# Altium footprint library IVV_Connectors.PcbLib: 11 footprints
Each footprint in its own frame and in the unit in brackets; x right, y up, seen from the top. Pads: shape width x height; smd on the part's side, far side on the other; paste and mask are expansions set on the pad; w line width, h text height; cw(c..) or ccw(c..) is an arc to the next point about the centre after c.
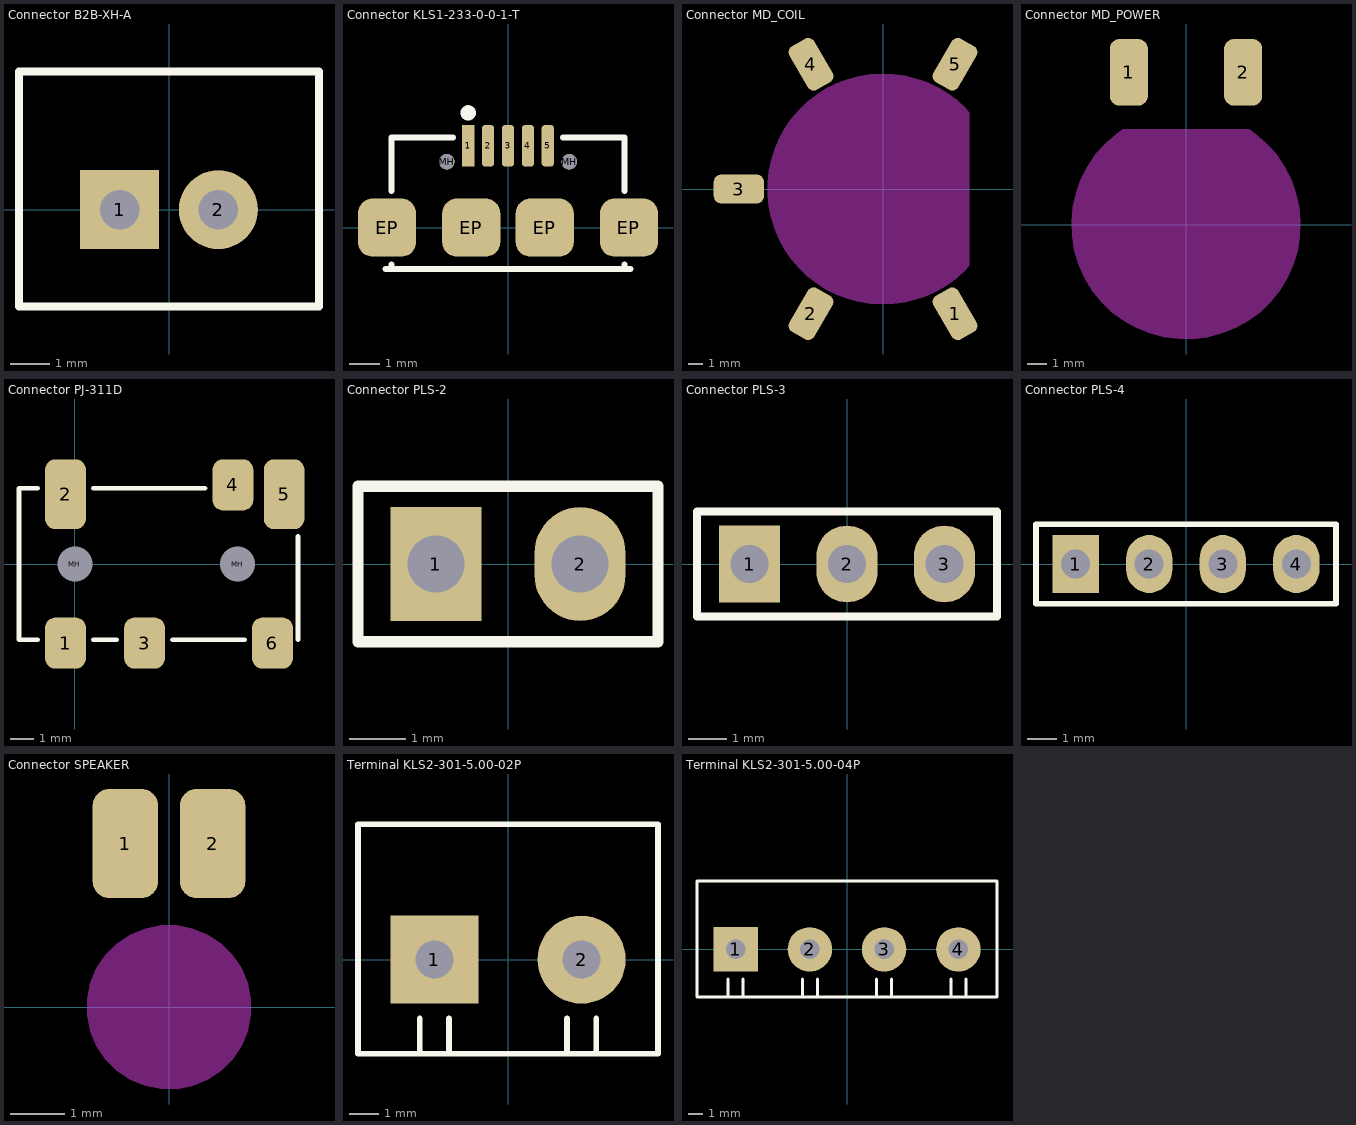
[diagram p0: the footprints below, top view; thin cyan lines are the x and y axes]

## Connector B2B-XH-A [mm]
pads (2):
  rect 2x2 hole 1 mask+0.075: 1(-1.25,0)
  round 2 hole 1 mask+0.075: 2(1.25,0)
Top Overlay:
  lines w0.2: -3.8,-2.45 -3.8,3.5 3.8,3.5 3.8,-2.45 -3.8,-2.45
3D body "JST - XH - Thru - 2Pin - 2.5mm (Genuine).stp": height 7.21, standoff -3, extent -3.587,-2.489 3.587,3.353

## Connector KLS1-233-0-0-1-T [mm]
pads (11):
  rect 0.4x1.35 smd mask+0.075: 1(-1.3,2.675)
  rrect50% 0.4x1.35 smd mask+0.075: 2(-0.65,2.675) 3(0,2.675) 4(0.65,2.675) 5(1.3,2.675)
  rrect50% 1.9x1.9 smd mask+0.075: EP(-3.95,0) EP(-1.2,0) EP(1.2,0) EP(3.95,0)
  round 0.5 hole 0.5 unplated mask+0.075: MH(-2,2.15) MH(2,2.15)
Top Overlay:
  circle w0.25: c-1.3,3.75 r0.125
  lines w0.2: -4,-1.35 4,-1.35 ; -3.8,-1.35 -3.8,-1.2 ; -3.8,1.2 -3.8,2.95 -1.8,2.95 ; 1.8,2.95 3.8,2.95 3.8,1.2 ; 3.8,-1.35 3.8,-1.2
3D body "molex_0473460001.STEP": height 2.73, standoff -0.04, extent -3.99,-2.581 3.99,2.85

## Connector MD_COIL [mm]
pads (5):
  rrect50% 3.5x2 smd rot 120 mask+0.075: 1(5,-8.66) 4(-5,8.66)
  rrect50% 3.5x2 smd rot 60 mask+0.075: 2(-5,-8.66) 5(5,8.66)
  rrect50% 3.5x2 smd mask+0.075: 3(-10,0)
Keep-Out Layer:
  board cut-out: -8,0 -8,0.403 -7.919,1.206 -7.757,1.997 -7.517,2.767 -7.2,3.51 -6.811,4.216 -6.352,4.88 -5.829,5.494 -5.246,6.053 -4.611,6.55 -3.928,6.981 -3.206,7.341 -2.451,7.626 -1.671,7.834 -0.875,7.962 -0.069,8.01 0.737,7.976 1.536,7.862 2.319,7.667 3.079,7.395 3.807,7.048 4.497,6.629 5.141,6.143 5.733,5.594 6,5.291 6,-5.291 5.733,-5.594 5.141,-6.143 4.497,-6.629 3.807,-7.048 3.079,-7.395 2.319,-7.667 1.536,-7.862 0.737,-7.976 -0.069,-8.01 -0.875,-7.962 -1.671,-7.834 -2.451,-7.626 -3.206,-7.341 -3.928,-6.981 -4.611,-6.55 -5.246,-6.053 -5.829,-5.494 -6.352,-4.88 -6.811,-4.216 -7.2,-3.51 -7.517,-2.767 -7.757,-1.997 -7.919,-1.206 -8,-0.403

## Connector MD_POWER [mm]
pads (2):
  rrect50% 2x3.5 smd mask+0.075: 1(-3,8) 2(3,8)
Keep-Out Layer:
  board cut-out: -3.317,5 3.317,5 3.637,4.788 4.217,4.285 4.729,3.713 5.163,3.08 5.514,2.397 5.774,1.674 5.941,0.925 6.01,0.16 5.982,-0.607 5.855,-1.364 5.634,-2.1 5.32,-2.8 4.92,-3.456 4.439,-4.055 3.886,-4.587 3.27,-5.045 2.6,-5.421 1.888,-5.708 1.145,-5.902 0.384,-6 0,-6 -0.384,-6 -1.145,-5.902 -1.888,-5.708 -2.6,-5.421 -3.27,-5.045 -3.886,-4.587 -4.439,-4.055 -4.92,-3.456 -5.32,-2.8 -5.634,-2.1 -5.855,-1.364 -5.982,-0.607 -6.01,0.16 -5.941,0.925 -5.774,1.674 -5.514,2.397 -5.163,3.08 -4.729,3.713 -4.217,4.285 -3.636,4.788

## Connector PJ-311D [mm]
pads (8):
  rrect50% 1.75x2.2 smd mask+0.075: 1(-0.4,-3.4) 3(3,-3.4) 4(6.8,3.4) 6(8.5,-3.4)
  rrect50% 1.75x3 smd mask+0.075: 2(-0.4,3) 5(9,3)
  rrect50% 0.5x0.5 hole 1.5 unplated mask+0.075: MH(0,0) MH(7,0)
Top Overlay:
  lines w0.2: -1.6,-3.25 -2.4,-3.25 -2.4,3.25 -1.6,3.25 ; 0.8,-3.25 1.8,-3.25 ; 0.8,3.25 5.6,3.25 ; 4.2,-3.25 7.3,-3.25 ; 9.6,-3.25 9.6,1.2
3D body "sj2-35894d-smt-tr.stp": height 4.92, standoff -0.48, extent -4.5,-4.15 9.5,4.15

## Connector PLS-2 [mm]
pads (2):
  rect 1.6x2 hole 1 mask+0.075: 1(-1.27,0)
  oval 1.6x2 hole 1 mask+0.075: 2(1.27,0)
Top Overlay:
  lines w0.2: -2.64,-1.37 -2.64,1.37 2.64,1.37 2.64,-1.37 -2.64,-1.37
3D body "DS1021-1x2SF11.stp": height 8.6, standoff -3, extent -2.54,-1.27 2.54,1.27

## Connector PLS-3 [mm]
pads (3):
  rect 1.6x2 hole 1 mask+0.075: 1(-2.54,0)
  oval 1.6x2 hole 1 mask+0.075: 2(0,0) 3(2.54,0)
Top Overlay:
  lines w0.2: -3.91,-1.37 -3.91,1.37 3.91,1.37 3.91,-1.37 -3.91,-1.37
3D body "DS1021-1x3SF11.stp": height 8.6, standoff -3, extent -3.81,-1.27 3.81,1.27

## Connector PLS-4 [mm]
pads (4):
  rect 1.6x2 hole 1 mask+0.075: 1(-3.81,0)
  oval 1.6x2 hole 1 mask+0.075: 2(-1.27,0) 3(1.27,0) 4(3.81,0)
Top Overlay:
  lines w0.2: -5.18,-1.37 5.18,-1.37 5.18,1.37 -5.18,1.37 -5.18,-1.37
3D body "DS1021-1x4SF11.stp": height 8.6, standoff -3, extent -5.08,-1.27 5.08,1.27

## Connector SPEAKER [mm]
pads (2):
  rrect50% 1.2x2 smd mask+0.075: 1(-0.8,3) 2(0.8,3)
Keep-Out Layer:
  board cut-out: 0,1.5 0.148,1.5 0.438,1.442 0.711,1.329 0.956,1.165 1.165,0.956 1.329,0.711 1.442,0.438 1.5,0.148 1.5,0 1.5,-0.148 1.442,-0.438 1.329,-0.711 1.165,-0.956 0.956,-1.165 0.711,-1.329 0.438,-1.442 0.148,-1.5 0,-1.5 -0.148,-1.5 -0.438,-1.442 -0.711,-1.329 -0.956,-1.165 -1.165,-0.956 -1.329,-0.711 -1.442,-0.438 -1.5,-0.148 -1.5,0 -1.5,0.148 -1.442,0.438 -1.329,0.711 -1.165,0.956 -0.956,1.165 -0.711,1.329 -0.438,1.442 -0.148,1.5

## Terminal KLS2-301-5.00-02P [mm]
pads (2):
  rect 3x3 hole 1.3 mask+0.075: 1(-2.5,0)
  round 3 hole 1.3 mask+0.075: 2(2.5,0)
Top Overlay:
  lines w0.2: -3,-3.2 -3,-2 ; -2,-3.2 -2,-2 ; 2,-3.2 2,-2 ; 3,-3.2 3,-2 ; -5.1,-3.2 5.1,-3.2 5.1,4.6 -5.1,4.6 -5.1,-3.2
3D body "DG301-5.0-02.stp": height 10, standoff -4.3, extent -5.6,-3.1 5,4.5

## Terminal KLS2-301-5.00-04P [mm]
pads (4):
  rect 3x3 hole 1.3 mask+0.075: 1(-7.5,0)
  round 3 hole 1.3 mask+0.075: 2(-2.5,0) 3(2.5,0) 4(7.5,0)
Top Overlay:
  lines w0.2: -8,-3.2 -8,-2 ; -7,-3.2 -7,-2 ; -3,-3.2 -3,-2 ; -2,-3.2 -2,-2 ; 2,-3.2 2,-2 ; 3,-3.2 3,-2 ; 7,-3.2 7,-2 ; 8,-3.2 8,-2 ; -10.1,-3.2 -10.1,4.6 10.1,4.6 10.1,-3.2 -10.1,-3.2
3D body "DG301-5.0-04.stp": height 10, standoff -4.3, extent -10.6,-3.1 10,4.5